# EAGLE library part LPC2210 (library nxp-arm)
MICROCONTROLLER 16/32-bit ARM microcontrollers; flashless with 64 kB 10-bit ADC and external memory interface
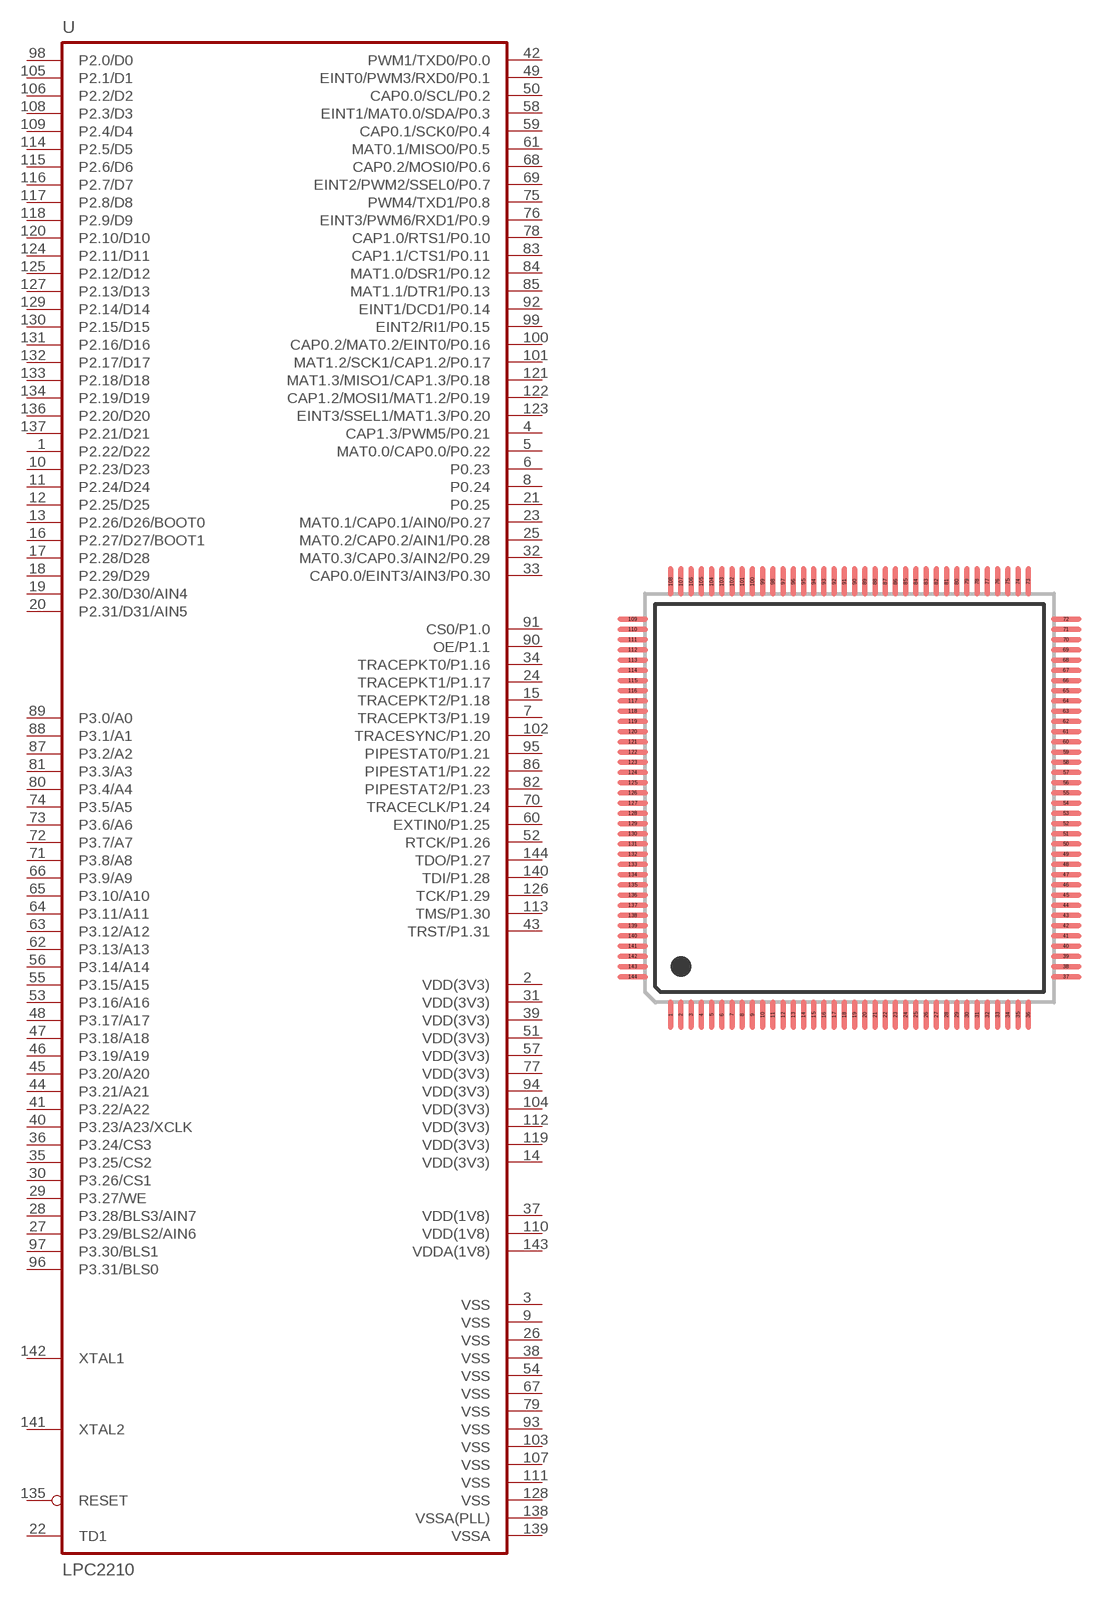
[diagram p14: symbol with the pads of LQFP144; footprint LQFP144]

Designator prefix U

## LPC2210FBD144  [LQFP144]
1  P2.22/D22
2  VDD3-1(I/O)  pwr
3  VSS1  pwr
4  CAP1.3/PWM5/P0.21
5  MAT0.0/CAP0.0/P0.22
6  P0.23
7  TRACEPKT3/P1.19
8  P0.24
9  VSS2  pwr
10  P2.23/D23
11  P2.24/D24
12  P2.25/D25
13  P2.26/D26/BOOT0
14  VDDA(3V3)  pwr
15  TRACEPKT2/P1.18
16  P2.27/D27/BOOT1
17  P2.28/D28
18  P2.29/D29
19  P2.30/D30/AIN4
20  P2.31/D31/AIN5
21  P0.25
22  TD1
23  MAT0.1/CAP0.1/AIN0/P0.27
24  TRACEPKT1/P1.17
25  MAT0.2/CAP0.2/AIN1/P0.28
26  VSS3  pwr
27  P3.29/BLS2/AIN6
28  P3.28/BLS3/AIN7
29  P3.27/WE
30  P3.26/CS1
31  VDD3-2(I/O)  pwr
32  MAT0.3/CAP0.3/AIN2/P0.29
33  CAP0.0/EINT3/AIN3/P0.30
34  TRACEPKT0/P1.16
35  P3.25/CS2
36  P3.24/CS3
37  VDD(1V8)-1  pwr
38  VSS4  pwr
39  VDD3-3(I/O)  pwr
40  P3.23/A23/XCLK
41  P3.22/A22
42  PWM1/TXD0/P0.0
43  TRST/P1.31
44  P3.21/A21
45  P3.20/A20
46  P3.19/A19
47  P3.18/A18
48  P3.17/A17
49  EINT0/PWM3/RXD0/P0.1
50  CAP0.0/SCL/P0.2
51  VDD3-4(I/O)  pwr
52  RTCK/P1.26
53  P3.16/A16
54  VSS5  pwr
55  P3.15/A15
56  P3.14/A14
57  VDD3-5(I/O)  pwr
58  EINT1/MAT0.0/SDA/P0.3
59  CAP0.1/SCK0/P0.4
60  EXTIN0/P1.25
61  MAT0.1/MISO0/P0.5
62  P3.13/A13
63  P3.12/A12
64  P3.11/A11
65  P3.10/A10
66  P3.9/A9
67  VSS6  pwr
68  CAP0.2/MOSI0/P0.6
69  EINT2/PWM2/SSEL0/P0.7
70  TRACECLK/P1.24
71  P3.8/A8
72  P3.7/A7
73  P3.6/A6
74  P3.5/A5
75  PWM4/TXD1/P0.8
76  EINT3/PWM6/RXD1/P0.9
77  VDD3-6(I/O)  pwr
78  CAP1.0/RTS1/P0.10
79  VSS7  pwr
80  P3.4/A4
81  P3.3/A3
82  PIPESTAT2/P1.23
83  CAP1.1/CTS1/P0.11
84  MAT1.0/DSR1/P0.12
85  MAT1.1/DTR1/P0.13
86  PIPESTAT1/P1.22
87  P3.2/A2
88  P3.1/A1
89  P3.0/A0
90  OE/P1.1
91  CS0/P1.0
92  EINT1/DCD1/P0.14
93  VSS8  pwr
94  VDD3-7(I/O)  pwr
95  PIPESTAT0/P1.21
96  P3.31/BLS0
97  P3.30/BLS1
98  P2.0/D0
99  EINT2/RI1/P0.15
100  CAP0.2/MAT0.2/EINT0/P0.16
101  MAT1.2/SCK1/CAP1.2/P0.17
102  TRACESYNC/P1.20
103  VSS9  pwr
104  VDD3-8(I/O)  pwr
105  P2.1/D1
106  P2.2/D2
107  VSS10  pwr
108  P2.3/D3
109  P2.4/D4
110  VDD(1V8)-2  pwr
111  VSS11  pwr
112  VDD3-9(I/O)  pwr
113  TMS/P1.30
114  P2.5/D5
115  P2.6/D6
116  P2.7/D7
117  P2.8/D8
118  P2.9/D9
119  VDD3-10(I/O)  pwr
120  P2.10/D10
121  MAT1.3/MISO1/CAP1.3/P0.18
122  CAP1.2/MOSI1/MAT1.2/P0.19
123  EINT3/SSEL1/MAT1.3/P0.20
124  P2.11/D11
125  P2.12/D12
126  TCK/P1.29
127  P2.13/D13
128  VSS12  pwr
129  P2.14/D14
130  P2.15/D15
131  P2.16/D16
132  P2.17/D17
133  P2.18/D18
134  P2.19/D19
135  RESET  in
136  P2.20/D20
137  P2.21/D21
138  VSSA(PLL)  pwr
139  VSSA  pwr
140  TDI/P1.28
141  XTAL2  out
142  XTAL1  in
143  VDDA(1V8)  pwr
144  TDO/P1.27

## Footprint LQFP144 (pad centres in mm)
LQFP144 Package
smd 0.25 x 1.5: 1 -8.75,-10.6; 2 -8.25,-10.6; 3 -7.75,-10.6; 4 -7.25,-10.6; 5 -6.75,-10.6; 6 -6.25,-10.6; 7 -5.75,-10.6; 8 -5.25,-10.6; 9 -4.75,-10.6; 10 -4.25,-10.6; 11 -3.75,-10.6; 12 -3.25,-10.6; 13 -2.75,-10.6; 14 -2.25,-10.6; 15 -1.75,-10.6; 16 -1.25,-10.6; 17 -0.75,-10.6; 18 -0.25,-10.6; 19 0.25,-10.6; 20 0.75,-10.6; 21 1.25,-10.6; 22 1.75,-10.6; 23 2.25,-10.6; 24 2.75,-10.6; 25 3.25,-10.6; 26 3.75,-10.6; 27 4.25,-10.6; 28 4.75,-10.6; 29 5.25,-10.6; 30 5.75,-10.6; 31 6.25,-10.6; 32 6.75,-10.6; 33 7.25,-10.6; 34 7.75,-10.6; 35 8.25,-10.6; 36 8.75,-10.6; 73 8.75,10.6; 74 8.25,10.6; 75 7.75,10.6; 76 7.25,10.6; 77 6.75,10.6; 78 6.25,10.6; 79 5.75,10.6; 80 5.25,10.6; 81 4.75,10.6; 82 4.25,10.6; 83 3.75,10.6; 84 3.25,10.6; 85 2.75,10.6; 86 2.25,10.6; 87 1.75,10.6; 88 1.25,10.6; 89 0.75,10.6; 90 0.25,10.6; 91 -0.25,10.6; 92 -0.75,10.6; 93 -1.25,10.6; 94 -1.75,10.6; 95 -2.25,10.6; 96 -2.75,10.6; 97 -3.25,10.6; 98 -3.75,10.6; 99 -4.25,10.6; 100 -4.75,10.6; 101 -5.25,10.6; 102 -5.75,10.6; 103 -6.25,10.6; 104 -6.75,10.6; 105 -7.25,10.6; 106 -7.75,10.6; 107 -8.25,10.6; 108 -8.75,10.6
smd 1.5 x 0.25: 37 10.6,-8.75; 38 10.6,-8.25; 39 10.6,-7.75; 40 10.6,-7.25; 41 10.6,-6.75; 42 10.6,-6.25; 43 10.6,-5.75; 44 10.6,-5.25; 45 10.6,-4.75; 46 10.6,-4.25; 47 10.6,-3.75; 48 10.6,-3.25; 49 10.6,-2.75; 50 10.6,-2.25; 51 10.6,-1.75; 52 10.6,-1.25; 53 10.6,-0.75; 54 10.6,-0.25; 55 10.6,0.25; 56 10.6,0.75; 57 10.6,1.25; 58 10.6,1.75; 59 10.6,2.25; 60 10.6,2.75; 61 10.6,3.25; 62 10.6,3.75; 63 10.6,4.25; 64 10.6,4.75; 65 10.6,5.25; 66 10.6,5.75; 67 10.6,6.25; 68 10.6,6.75; 69 10.6,7.25; 70 10.6,7.75; 71 10.6,8.25; 72 10.6,8.75; 109 -10.6,8.75; 110 -10.6,8.25; 111 -10.6,7.75; 112 -10.6,7.25; 113 -10.6,6.75; 114 -10.6,6.25; 115 -10.6,5.75; 116 -10.6,5.25; 117 -10.6,4.75; 118 -10.6,4.25; 119 -10.6,3.75; 120 -10.6,3.25; 121 -10.6,2.75; 122 -10.6,2.25; 123 -10.6,1.75; 124 -10.6,1.25; 125 -10.6,0.75; 126 -10.6,0.25; 127 -10.6,-0.25; 128 -10.6,-0.75; 129 -10.6,-1.25; 130 -10.6,-1.75; 131 -10.6,-2.25; 132 -10.6,-2.75; 133 -10.6,-3.25; 134 -10.6,-3.75; 135 -10.6,-4.25; 136 -10.6,-4.75; 137 -10.6,-5.25; 138 -10.6,-5.75; 139 -10.6,-6.25; 140 -10.6,-6.75; 141 -10.6,-7.25; 142 -10.6,-7.75; 143 -10.6,-8.25; 144 -10.6,-8.75